# EAGLE library part OLED-COLOR (library IntegerLabs)
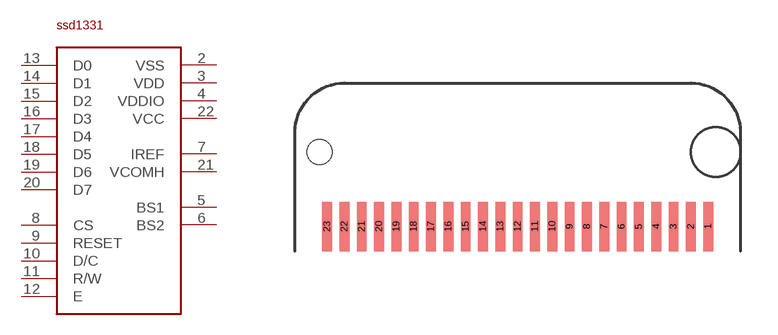
[diagram p29: symbol with the pads of FPC-24-REVERSE; footprint FPC-24-REVERSE]

Designator prefix -

## OLED-COLORREVERSE  [FPC-24-REVERSE]
2  VSS
3  VDD
4  VDDIO
5  BS1
6  BS2
7  IREF
8  CS
9  RESET
10  D/C
11  R/W
12  E
13  D0
14  D1
15  D2
16  D3
17  D4
18  D5
19  D6
20  D7
21  VCOMH
22  VCC

## Footprint FPC-24-REVERSE (pad centres in mm)
smd 0.4 x 2: 1 7.7,1; 2 7,1; 3 6.3,1; 4 5.6,1; 5 4.9,1; 6 4.2,1; 7 3.5,1; 8 2.8,1; 9 2.1,1; 10 1.4,1; 11 0.7,1; 12 0,1; 13 -0.7,1; 14 -1.4,1; 15 -2.1,1; 16 -2.8,1; 17 -3.5,1; 18 -4.2,1; 19 -4.9,1; 20 -5.6,1; 21 -6.3,1; 22 -7,1; 23 -7.7,1
hole 1 at -8,4